# EAGLE library part AO4882 (library AO4882)
Dual N-Channel Power Trench® MOSFET 40 V, 12 A, 10 mΩ
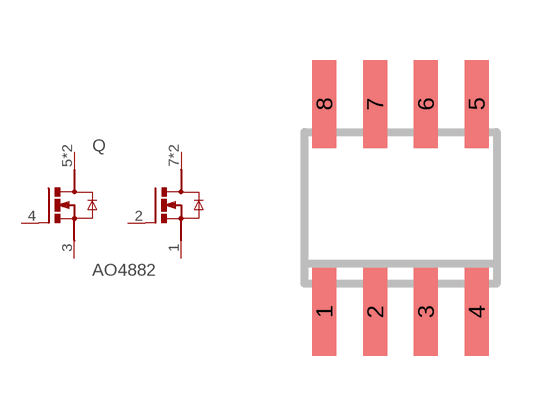
[diagram p0: symbol with the pads of SOIC8; footprint SOIC8]

Designator prefix Q

## AO4882"  [SOIC8]
1  S2  pas
2  G2  pas
3  S1  pas
4  G1  pas
5  D1  pas
6  D1  pas
7  D2  pas
8  D2  pas

## Footprint SOIC8 (pad centres in mm)
Small Outline IC
smd 0.6 x 2.2: 1 -1.905,-2.6; 2 -0.635,-2.6; 3 0.635,-2.6; 4 1.905,-2.6; 5 1.905,2.6; 6 0.635,2.6; 7 -0.635,2.6; 8 -1.905,2.6